# EAGLE library part IC_MEM_23A** (library dp_devices)
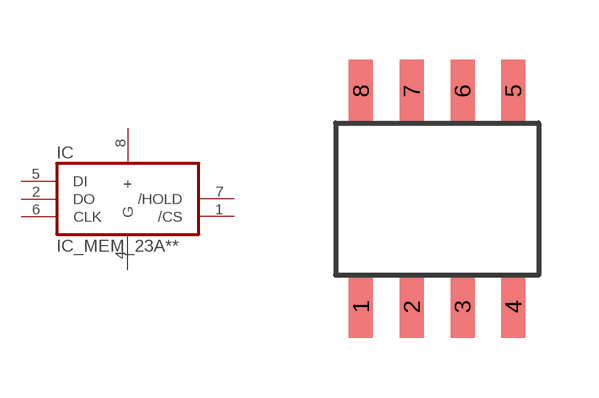
[diagram p51: symbol with the pads of SO-8; footprint SO-8]

Designator prefix IC

## IC_MEM_23ASO8  [SO-8]
1  /CS
2  DO
4  G  pwr
5  DI
6  CLK
7  /HOLD
8  +  pwr

## Footprint SO-8 (pad centres in mm)
smd 0.6 x 1.55: 1 -1.905,-2.69; 2 -0.635,-2.69; 3 0.635,-2.69; 4 1.905,-2.69; 5 1.905,2.71; 6 0.635,2.71; 7 -0.635,2.71; 8 -1.905,2.71